# Altium schematic symbol library BQ2972.Schlib: 1 symbol
Pins are listed as number, name and electrical type; pins without a type are passive.

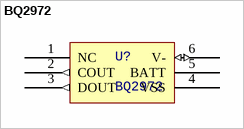
[diagram p0: symbol BQ2972]

## BQ2972
designator U?
Battery protection
footprint SON50P150X150X80-6N
pins: 1 NC, 2 COUT (out), 3 DOUT (out), 4 VSS (power), 5 BATT (power), 6 V- (io)